# Altium integrated library ESP32.IntLib: 1 symbol
Pins are listed as number, name and electrical type; pins without a type are passive.

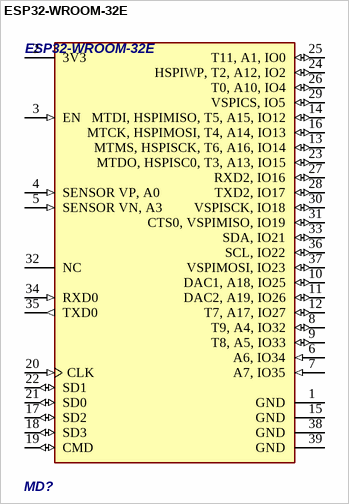
[diagram p0: symbol ESP32-WROOM-32E]

## ESP32-WROOM-32E
designator MD?
WIFI MODULE 32MBITS SPI FLASH; Manufacturer: Espressif Systems; Manufacturer Part Number: ESP32-WROOM-32D; Max Supply Voltage: 3.6V; Nominal Supply Current: 500mA; Max Frequency: 2484MHz; Number Of Adc Channels: 16; Number Of Gpio: 32; Interface: I2C,SPI,UART,Ethernet,I2S,Other; Data Rate: 150Mbits/s; Min Supply Voltage: 3V; Bandwidth: 72MHz; Sensitivity: -98dBm; Octopart: https://octopart.com/esp32-wroom-32d-espressif+systems-91040050; Package: ESP32-WROOM-32D; ComponentLink2URL: https://www.espressif.com/sites/default/files/documentation/esp32-wroom-32d_esp32-wroom-32u_datasheet_en.pdf; Lead Free: Yes; Category: UNK; Mouser Description: Wi-Fi/BT BLE Module ESP32-D0WD, SPI Flash, UART, P; Device Class L1: Integrated Circuits (ICs); RoHS: TRUE; Temperature Range Low: -40°C; ComponentLink2Description: Datasheet; Digikey Description: WIFI MODULE 32MBITS SPI FLASH; Height: 3.2mm; Temperature: -40°C to +85°C; Device Class L3: Transceivers; Device Class L2: RF Semiconductors and Devices; Temperature Range High: +85°C; Automotive: No
footprint FP-ESP32-WROOM-32D-MFG
pins: 1 GND (power), 2 3V3 (power), 3 EN (in), 4 SENSOR VP, A0 (in), 5 SENSOR VN, A3 (in), 6 A6, IO34 (in), 7 A7, IO35 (in), 8 T9, A4, IO32 (io), 9 T8, A5, IO33 (io), 10 DAC1, A18, IO25 (io), 11 DAC2, A19, IO26 (io), 12 T7, A17, IO27 (io), 13 MTMS, HSPISCK, T6, A16, IO14 (io), 14 MTDI, HSPIMISO, T5, A15, IO12 (io), 15 GND (power), 16 MTCK, HSPIMOSI, T4, A14, IO13 (io), 17 SD2 (io), 18 SD3 (io), 19 CMD (io), 20 CLK (in), 21 SD0 (io), 22 SD1 (io), 23 MTDO, HSPISC0, T3, A13, IO15 (io), 24 HSPIWP, T2, A12, IO2 (io), 25 T11, A1, IO0 (io), 26 T0, A10, IO4 (io), 27 RXD2, IO16 (io), 28 TXD2, IO17 (io), 29 VSPICS, IO5 (io), 30 VSPISCK, IO18 (io), 31 CTS0, VSPIMISO, IO19 (io), 32 NC, 33 SDA, IO21 (io), 34 RXD0 (in), 35 TXD0 (out), 36 SCL, IO22 (io), 37 VSPIMOSI, IO23 (io), 38 GND (power), 39 GND (power)